# EAGLE library part 691244510006 (library Eagle_WR-TBL Rising Cage Clamp (rev20a))
WR-TBL Serie 2445 - 5.08 mm Horizontal Entry Modular w. Rising Cage Clamp KIND PROPERTIES Pitch 5.08 mm MATERIAL PROPERTIES Insulator Material PA66 Insulator Flammability Rating UL94 V-0 Contact Material Copper Alloy Contact Plating Tin over Nickel Terminal Screw Material Steel Terminal Screw Plating Zinc Wire Guard Material Copper Alloy GENERAL INFORMATION Operating Temperature -30 up to +120 °C Compliance RoHS ELECTRICAL PROPERTIES IR cULus 16 A IR VDE 24 A Working Voltage [cULus] 300 V (AC) Working Voltage [VDE] 450 V (AC) Withstanding Voltage [cULus] 1600 V (AC) Withstanding Voltage [VDE] 2500 V (AC) Contact Resistance [cULus] 20 mΩ Contact Resistance [VDE] 20 mΩ MECHANICAL PROPERTIES Wire Strip Length 6 Screw M3 CERTIFICATION cULus Approval E150931 VDE Approval 40015450 PACKAGING PROPERTIES Packaging Box <https://www.we-online.com/catalog/media/o60835v209%20Family_TBL_5_08_2445_HORIZONTAL_CABLE_ENTRY_W_RISING_CAGE_6912445100xx.jpg> Details see: https://www.we-online.com/catalog/en/TBL_5_08_2445_HORIZONTAL_CABLE_ENTRY_W_RISING_CAGE_6912445100xx/ Updated by Ella Wu 2019-11-26 2019(C) Wurth Elektronik
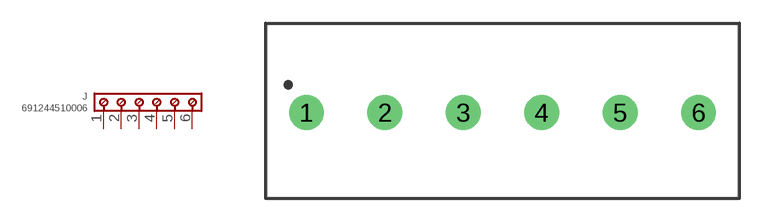
[diagram p74: symbol with the pads of 691244510006; footprint 691244510006]

Designator prefix J

## 691244510006 (IR-UL: 16A; IR-VDE: 24A; PART-NUMBER: 691244510006; PINS: 6; PITCH: 5.08mm; TYPE: Horizontal; WIRE: 12 to 30 (AWG) 3.31 to 0.0509 (mm²); WORKING-VOLTAGE-UL: 300V (AC); WORKING-VOLTAGE-VDE: 450V (AC))  [691244510006]
1  1  pas
2  2  pas
3  3  pas
4  4  pas
5  5  pas
6  6  pas

## Footprint 691244510006 (pad centres in mm)
WR-TBL Serie 2445 - 5.08 mm Horizontal Entry Modular w. Rising Cage Clamp Max Height =18mm , Pitch 5.08mm , 6 Pins
drill 1.5: 1 -12.7,0; 2 -7.62,0; 3 -2.54,0; 4 2.54,0; 5 7.62,0; 6 12.7,0